# Altium schematic symbol library MCU_Renesas_Synergy_S1.SchLib: 1 symbol
Pins are listed as number, name and electrical type; pins without a type are passive.

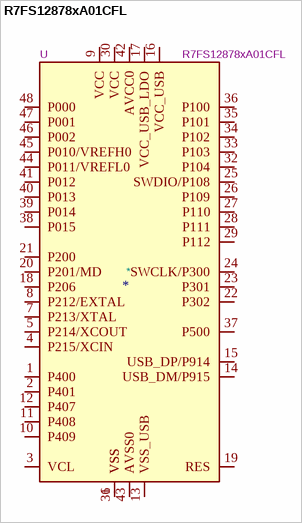
[diagram p0: symbol R7FS12878xA01CFL]

## R7FS12878xA01CFL
designator *  value R7FS12878xA01CFL  Reference: U
ARM Cortex-M0+ MCU, 32MHz, 256KB Flash, 24KB RAM, 1.65-3.6V, 37 GPIO, LQFP-48; ki_keywords: 32-bit ARM Cortex-M0+ MCU Microcontroller; ki_fp_filters: LQFP*7x7mm*P0.5mm*; Footprint: Package_QFP:LQFP-48_7x7mm_P0.5mm; Datasheet: https://www.renesas.com/us/en/doc/products/renesas-synergy/doc/r01ds0309eu0100-synergy-s128.pdf; Description_: ARM Cortex-M0+ MCU, 32MHz, 256KB Flash, 24KB RAM, 1.65-3.6V, 37 GPIO, LQFP-48
pins: 1 P400, 2 P401, 3 VCL, 4 P215/XCIN, 5 P214/XCOUT, 6 VSS, 7 P213/XTAL, 8 P212/EXTAL, 9 VCC, 10 P409, 11 P408, 12 P407, 13 VSS_USB, 14 USB_DM/P915, 15 USB_DP/P914, 16 VCC_USB, 17 VCC_USB_LDO, 18 P206, 19 RES, 20 P201/MD, 21 P200, 22 P302, 23 P301, 24 SWCLK/P300, 25 SWDIO/P108, 26 P109, 27 P110, 28 P111, 29 P112, 30 VCC, 31 VSS, 32 P104, 33 P103, 34 P102, 35 P101, 36 P100, 37 P500, 38 P015, 39 P014, 40 P013, 41 P012, 42 AVCC0, 43 AVSS0, 44 P011/VREFL0, 45 P010/VREFH0, 46 P002, 47 P001, 48 P000